# EAGLE library part MC1540 (library dec-con)
OP AMP
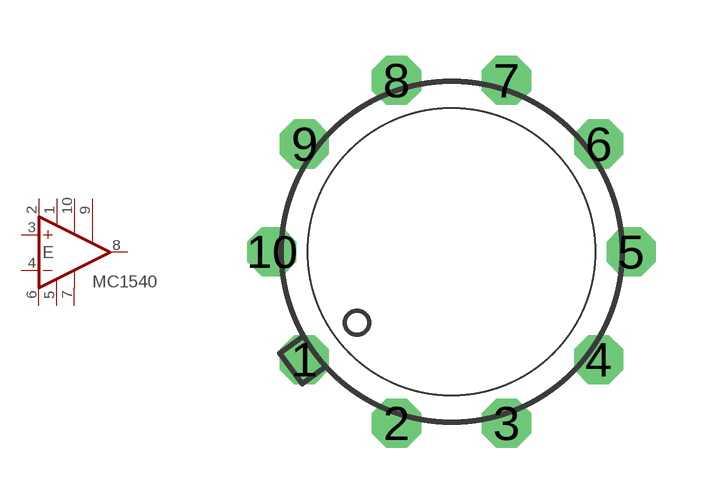
[diagram p9: symbol with the pads of 602B; footprint 602B]

Designator prefix E

## MC1540G  [602B]
1  CEXTA  pas
2  V+  pwr
3  +IN  in
4  -IN  in
5  V-  pwr
6  SLICE
7  GND  pwr
8  OUT  oc
9  ISTROBE  pas
10  CEXTB  pas

## Footprint 602B (pad centres in mm)
Metal Can Package
drill 0.813 octagon: 1 -3.954,-2.897; 2 -1.478,-4.605; 3 1.478,-4.605; 4 3.954,-2.897; 5 4.825,0; 6 3.954,2.897; 7 1.478,4.605; 8 -1.477,4.605; 9 -3.954,2.897; 10 -4.825,0